# Altium footprint library Temp Sensor.PcbLib: 1 footprints
Each footprint in its own frame and in the unit in brackets; x right, y up, seen from the top. Pads: shape width x height; smd on the part's side, far side on the other; paste and mask are expansions set on the pad; w line width, h text height; cw(c..) or ccw(c..) is an arc to the next point about the centre after c.
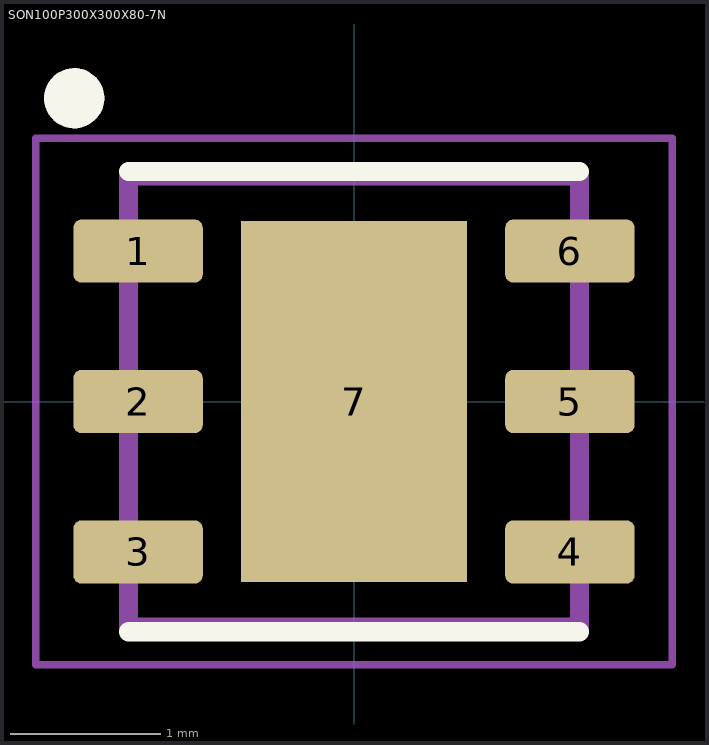
[diagram p0: the footprint, top view; thin cyan lines are the x and y axes]

## SON100P300X300X80-7N [mm]
pads (7):
  rrect25% 0.86x0.42 smd: 1(-1.435,1) 2(-1.435,0) 3(-1.435,-1) 4(1.435,-1) 5(1.435,0) 6(1.435,1)
  rect 1.5x2.4 smd paste-2: 7(0,0)
Top Overlay:
  circle w0.2: c-1.86,2.016 r0.1
  lines w0.127: -1.5,-1.53 1.5,-1.53 ; -1.5,1.53 1.5,1.53
Top Paste:
  region: 0.47,-0.76 -0.47,-0.76 -0.47,0.76 0.47,0.76
Mechanical 13:
  circle w0.2: c-1.86,2.016 r0.1
  lines w0.127: -1.5,-1.5 -1.5,1.5 1.5,1.5 1.5,-1.5 -1.5,-1.5
Mechanical 15:
  lines w0.05: -2.115,-1.75 -2.115,1.75 2.115,1.75 2.115,-1.75 -2.115,-1.75
3D body "step_temp.STEP": height 0.75, standoff -0.05, extent -1.5,-1.5 1.5,1.5